# Altium schematic symbol library USB Connectors WR-COM.SchLib: 48 symbols
Pins are listed as number, name and electrical type; pins without a type are passive.

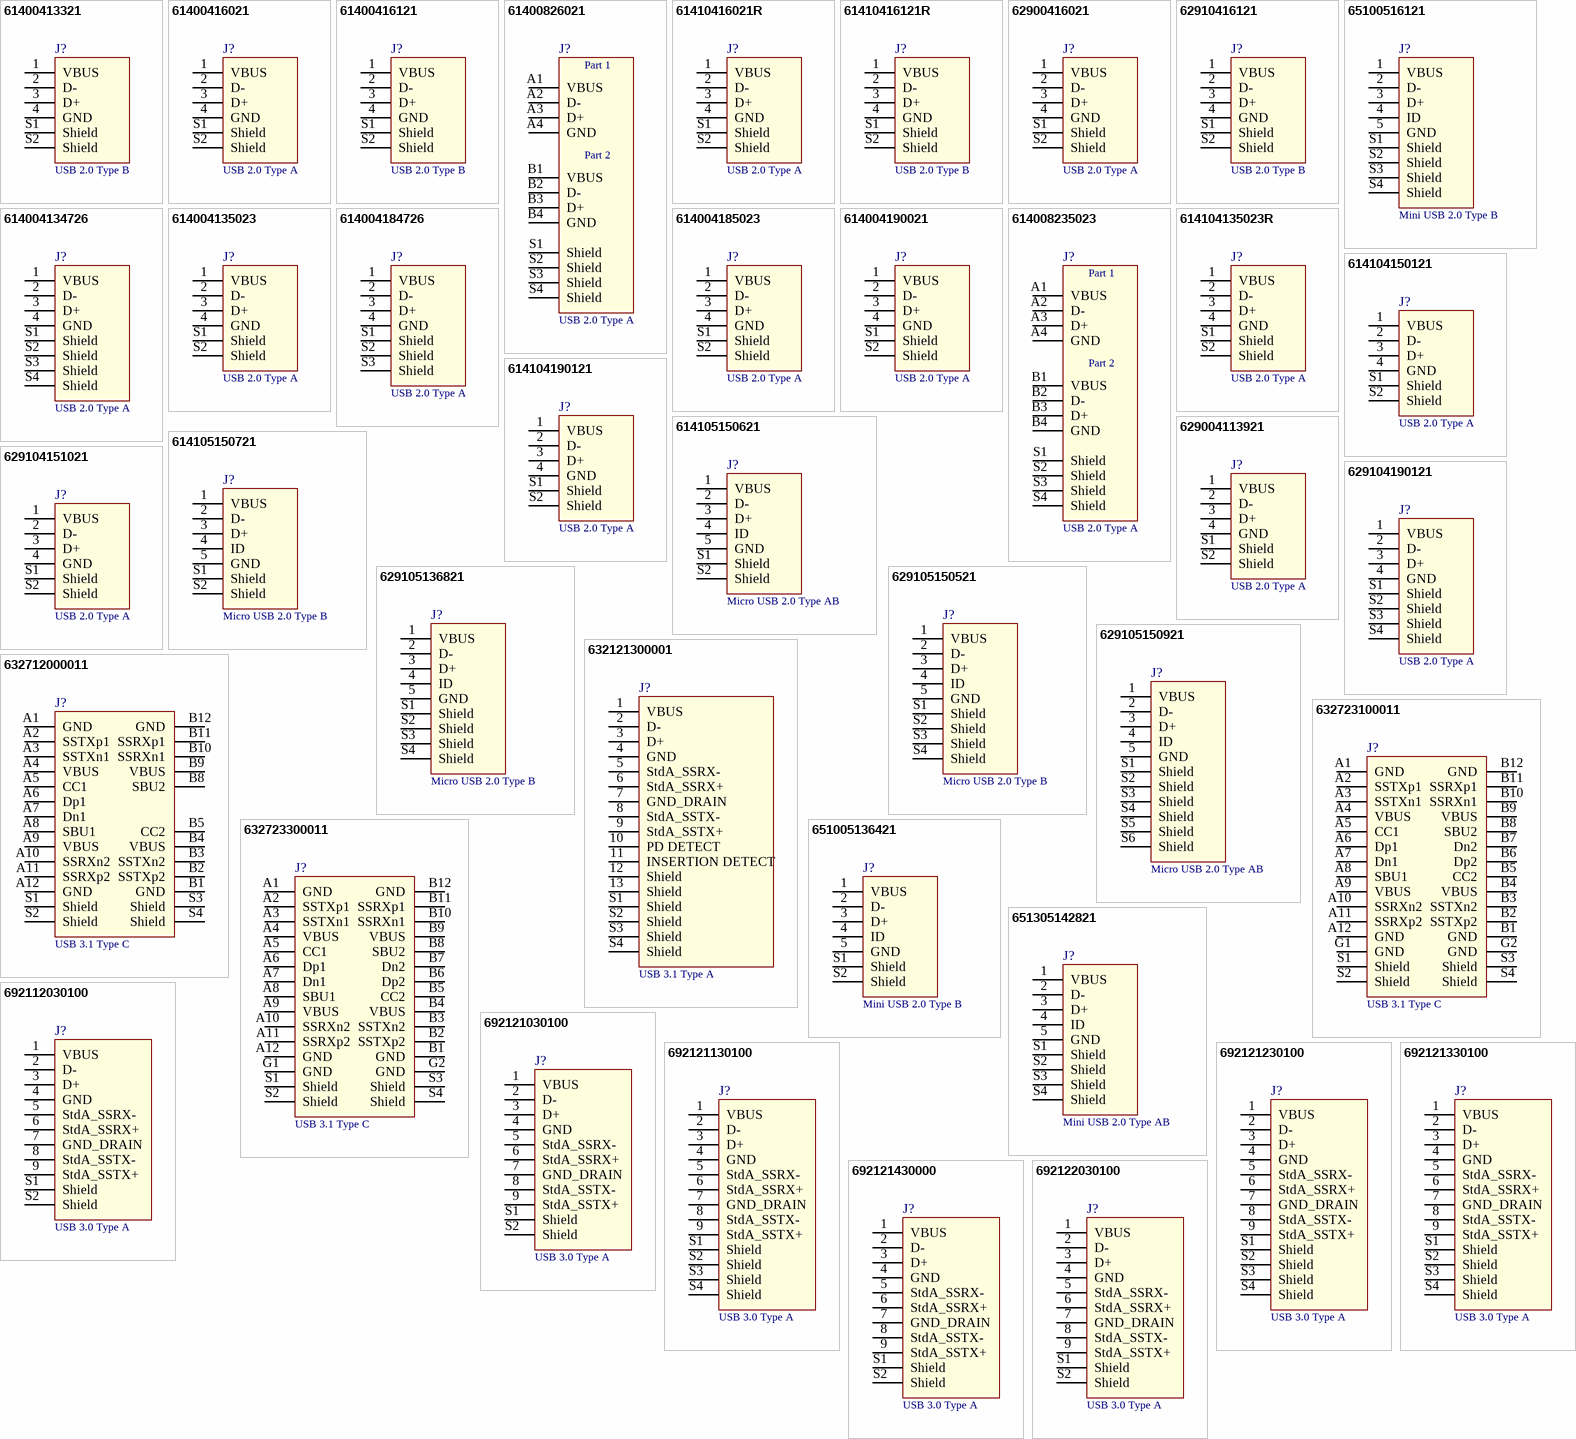
[diagram p0: symbols 61400413321 to 692122030100]

## 61400413321
designator J?, comment USB 2.0 Type B
USB 2.0 Type B Vertical THT WR-COM; Part Number: 61400413321; Rated Current: 1.5 A; Gender: Female; ComponentLink1Description: Manufacturer; ComponentLink1URL: http://www.we-online.de; ComponentLink2Description: Datasheet; ComponentLink2URL: http://katalog.we-online.de/em/datasheet/61400413321.pdf; Published Date: May 2018; Publisher: Wurth Elektronik; Orientation: Vertical; Interface Type: USB 2.0 Type B; Operating Temperature: -40 to 105 degC; Mounting Technology: THT; Packaging: Tray
footprint 61400413321
pins: 1 VBUS, 2 D-, 3 D+, 4 GND, S1 Shield, S2 Shield

## 61400416021
designator J?, comment USB 2.0 Type A
USB 2.0 Type A Horizontal THT WR-COM; Part Number: 61400416021; Rated Current: 1.5 A; Gender: Female; ComponentLink1Description: Manufacturer; ComponentLink1URL: http://www.we-online.de; ComponentLink2Description: Datasheet; ComponentLink2URL: http://katalog.we-online.de/em/datasheet/61400416021.pdf; Published Date: May 2018; Publisher: Wurth Elektronik; Orientation: Horizontal; Interface Type: USB 2.0 Type A; Operating Temperature: -40 to 105 degC; Mounting Technology: THT; Packaging: Tray
footprint 61400416021
pins: 1 VBUS, 2 D-, 3 D+, 4 GND, S1 Shield, S2 Shield

## 61400416121
designator J?, comment USB 2.0 Type B
USB 2.0 Type B Horizontal THT WR-COM; Part Number: 61400416121; Rated Current: 1.5 A; Gender: Female; ComponentLink1Description: Manufacturer; ComponentLink1URL: http://www.we-online.de; ComponentLink2Description: Datasheet; ComponentLink2URL: http://katalog.we-online.de/em/datasheet/61400416121.pdf; Published Date: May 2018; Publisher: Wurth Elektronik; Orientation: Horizontal; Interface Type: USB 2.0 Type B; Operating Temperature: -40 to 105 degC; Mounting Technology: THT; Packaging: Tray
footprint 61400416121
pins: 1 VBUS, 2 D-, 3 D+, 4 GND, S1 Shield, S2 Shield

## 61400826021
designator J?, comment USB 2.0 Type A
USB 2.0 Type A Horizontal THT Dual Stacked WR-COM; Part Number: 61400826021; Rated Current: 1.5 A; Gender: Female; ComponentLink1Description: Manufacturer; ComponentLink1URL: http://www.we-online.de; ComponentLink2Description: Datasheet; ComponentLink2URL: http://katalog.we-online.de/em/datasheet/61400826021.pdf; Published Date: May 2018; Publisher: Wurth Elektronik; Orientation: Horizontal; Interface Type: USB 2.0 Type A; Operating Temperature: -40 to 105 degC; Mounting Technology: THT; Packaging: Tray
footprint 61400826021
pins: A1 VBUS, A2 D-, A3 D+, A4 GND, B1 VBUS, B2 D-, B3 D+, B4 GND, S1 Shield, S2 Shield, S3 Shield, S4 Shield
text: Part 1; Part 2

## 61410416021R
designator J?, comment USB 2.0 Type A
USB 2.0 Type A Horizontal THR WR-COM; Part Number: 61410416021R; Rated Current: 1.5 A; Gender: Female; ComponentLink1Description: Manufacturer; ComponentLink1URL: http://www.we-online.de; ComponentLink2Description: Datasheet; ComponentLink2URL: http://katalog.we-online.de/em/datasheet/61410416021R.pdf; Published Date: May 2018; Publisher: Wurth Elektronik; Orientation: Horizontal; Interface Type: USB 2.0 Type A; Operating Temperature: -55 to 85 degC; Mounting Technology: THR; Packaging: Tape and Reel
footprint 61410416021R
pins: 1 VBUS, 2 D-, 3 D+, 4 GND, S1 Shield, S2 Shield

## 61410416121R
designator J?, comment USB 2.0 Type B
USB 2.0 Type B Horizontal THR WR-COM; Part Number: 61410416121R; Rated Current: 1.5 A; Gender: Female; ComponentLink1Description: Manufacturer; ComponentLink1URL: http://www.we-online.de; ComponentLink2Description: Datasheet; ComponentLink2URL: http://katalog.we-online.de/em/datasheet/61410416121R.pdf; Published Date: May 2018; Publisher: Wurth Elektronik; Orientation: Horizontal; Interface Type: USB 2.0 Type B; Operating Temperature: -55 to 85 degC; Mounting Technology: THR; Packaging: Tape and Reel
footprint 61410416121R
pins: 1 VBUS, 2 D-, 3 D+, 4 GND, S1 Shield, S2 Shield

## 62900416021
designator J?, comment USB 2.0 Type A
USB 2.0 Type A Horizontal SMT WR-COM; Part Number: 62900416021; Rated Current: 1.5 A; Gender: Female; ComponentLink1Description: Manufacturer; ComponentLink1URL: http://www.we-online.de; ComponentLink2Description: Datasheet; ComponentLink2URL: http://katalog.we-online.de/em/datasheet/62900416021.pdf; Published Date: May 2018; Publisher: Wurth Elektronik; Orientation: Horizontal; Interface Type: USB 2.0 Type A; Operating Temperature: -40 to 105 degC; Mounting Technology: SMT; Packaging: Tray
footprint 62900416021
pins: 1 VBUS, 2 D-, 3 D+, 4 GND, S1 Shield, S2 Shield

## 62910416121
designator J?, comment USB 2.0 Type B
USB 2.0 Type B Horizontal SMT with Pads and Pegs WR-COM; Part Number: 62910416121; Rated Current: 1.5 A; Gender: Female; ComponentLink1Description: Manufacturer; ComponentLink1URL: http://www.we-online.de; ComponentLink2Description: Datasheet; ComponentLink2URL: http://katalog.we-online.de/em/datasheet/62910416121.pdf; Published Date: May 2018; Publisher: Wurth Elektronik; Orientation: Horizontal; Interface Type: USB 2.0 Type B; Operating Temperature: -40 to 105 degC; Mounting Technology: SMT; Packaging: Tape and Reel
footprint 62910416121
pins: 1 VBUS, 2 D-, 3 D+, 4 GND, S1 Shield, S2 Shield

## 65100516121
designator J?, comment Mini USB 2.0 Type B
Mini USB 2.0 Type B Horizontal SMT 5 Contacts WR-COM; Part Number: 65100516121; Rated Current: 1 A; Gender: Female; ComponentLink1Description: Manufacturer; ComponentLink1URL: http://www.we-online.de; ComponentLink2Description: Datasheet; ComponentLink2URL: http://katalog.we-online.de/em/datasheet/65100516121.pdf; Published Date: May 2018; Publisher: Wurth Elektronik; Orientation: Horizontal; Interface Type: Mini USB 2.0 Type B; Operating Temperature: -40 to 105 degC; Mounting Technology: SMT; Packaging: Tray
footprint 65100516121
pins: 1 VBUS, 2 D-, 3 D+, 4 ID, 5 GND, S1 Shield, S2 Shield, S3 Shield, S4 Shield

## 614004134726
designator J?, comment USB 2.0 Type A
USB 2.0 Type A Up Right THT WR-COM; Part Number: 614004134726; Rated Current: 1.5 A; Gender: Female; ComponentLink1Description: Manufacturer; ComponentLink1URL: http://www.we-online.de; ComponentLink2Description: Datasheet; ComponentLink2URL: http://katalog.we-online.de/em/datasheet/614004134726.pdf; Published Date: May 2018; Publisher: Wurth Elektronik; Orientation: Up Right; Interface Type: USB 2.0 Type A; Operating Temperature: -40 to 105 degC; Mounting Technology: THT; Packaging: Tray
footprint 614004134726
pins: 1 VBUS, 2 D-, 3 D+, 4 GND, S1 Shield, S2 Shield, S3 Shield, S4 Shield

## 614004135023
designator J?, comment USB 2.0 Type A
USB 2.0 Type A Vertical THT WR-COM; Part Number: 614004135023; Rated Current: 1.5 A; Gender: Female; ComponentLink1Description: Manufacturer; ComponentLink1URL: http://www.we-online.de; ComponentLink2Description: Datasheet; ComponentLink2URL: http://katalog.we-online.de/em/datasheet/614004135023.pdf; Published Date: May 2018; Publisher: Wurth Elektronik; Orientation: Vertical; Interface Type: USB 2.0 Type A; Operating Temperature: -40 to 105 degC; Mounting Technology: THT; Packaging: Tray
footprint 614004135023
pins: 1 VBUS, 2 D-, 3 D+, 4 GND, S1 Shield, S2 Shield

## 614004184726
designator J?, comment USB 2.0 Type A
USB 2.0 Type A Up Right THT WR-COM; Part Number: 614004184726; Rated Current: 2 A; Gender: Female; ComponentLink1Description: Manufacturer; ComponentLink1URL: http://www.we-online.de; ComponentLink2Description: Datasheet; ComponentLink2URL: http://katalog.we-online.de/em/datasheet/614004184726.pdf; Published Date: May 2018; Publisher: Wurth Elektronik; Orientation: Up Right; Interface Type: USB 2.0 Type A; Operating Temperature: -40 to 85 degC; Mounting Technology: THT; Packaging: Tray
footprint 614004184726
pins: 1 VBUS, 2 D-, 3 D+, 4 GND, S1 Shield, S2 Shield, S3 Shield

## 614004185023
designator J?, comment USB 2.0 Type A
USB 2.0 Type A Vertical THT Short Type WR-COM; Part Number: 614004185023; Rated Current: 1.5 A; Gender: Female; ComponentLink1Description: Manufacturer; ComponentLink1URL: http://www.we-online.de; ComponentLink2Description: Datasheet; ComponentLink2URL: http://katalog.we-online.de/em/datasheet/614004185023.pdf; Published Date: May 2018; Publisher: Wurth Elektronik; Orientation: Vertical; Interface Type: USB 2.0 Type A; Operating Temperature: -55 to 85 degC; Mounting Technology: THT; Packaging: Tray
footprint 614004185023
pins: 1 VBUS, 2 D-, 3 D+, 4 GND, S1 Shield, S2 Shield

## 614004190021
designator J?, comment USB 2.0 Type A
USB 2.0 Type A Horizontal THT WR-COM; Part Number: 614004190021; Rated Current: 3 A; Gender: Female; ComponentLink1Description: Manufacturer; ComponentLink1URL: http://www.we-online.de; ComponentLink2Description: Datasheet; ComponentLink2URL: http://katalog.we-online.de/em/datasheet/614004190021.pdf; Published Date: May 2018; Publisher: Wurth Elektronik; Orientation: Horizontal; Interface Type: USB 2.0 Type A; Operating Temperature: -40 to 85 degC; Mounting Technology: THT; Packaging: Tray
footprint 614004190021
pins: 1 VBUS, 2 D-, 3 D+, 4 GND, S1 Shield, S2 Shield

## 614008235023
designator J?, comment USB 2.0 Type A
USB 2.0 Type A Vertical THT Dual WR-COM; Part Number: 614008235023; Rated Current: 1.5 A; Gender: Female; ComponentLink1Description: Manufacturer; ComponentLink1URL: http://www.we-online.de; ComponentLink2Description: Datasheet; ComponentLink2URL: http://katalog.we-online.de/em/datasheet/614008235023.pdf; Published Date: May 2018; Publisher: Wurth Elektronik; Orientation: Vertical; Interface Type: USB 2.0 Type A; Operating Temperature: -40 to 105 degC; Mounting Technology: THT; Packaging: Tray
footprint 614008235023
pins: A1 VBUS, A2 D-, A3 D+, A4 GND, B1 VBUS, B2 D-, B3 D+, B4 GND, S1 Shield, S2 Shield, S3 Shield, S4 Shield
text: Part 1; Part 2

## 614104135023R
designator J?, comment USB 2.0 Type A
USB 2.0 Type A Vertical THR WR-COM; Part Number: 614104135023R; Rated Current: 1.5 A; Gender: Female; ComponentLink1Description: Manufacturer; ComponentLink1URL: http://www.we-online.de; ComponentLink2Description: Datasheet; ComponentLink2URL: http://katalog.we-online.de/em/datasheet/614104135023R.pdf; Published Date: May 2018; Publisher: Wurth Elektronik; Orientation: Vertical; Interface Type: USB 2.0 Type A; Operating Temperature: -55 to 85 degC; Mounting Technology: THR; Packaging: Tape and Reel
footprint 614104135023R
pins: 1 VBUS, 2 D-, 3 D+, 4 GND, S1 Shield, S2 Shield

## 614104150121
designator J?, comment USB 2.0 Type A
USB 2.0 Type A Horizontal THT Slim Type WR-COM; Part Number: 614104150121; Rated Current: 1.5 A; Gender: Female; ComponentLink1Description: Manufacturer; ComponentLink1URL: http://www.we-online.de; ComponentLink2Description: Datasheet; ComponentLink2URL: http://katalog.we-online.de/em/datasheet/614104150121.pdf; Published Date: May 2018; Publisher: Wurth Elektronik; Orientation: Horizontal; Interface Type: USB 2.0 Type A; Operating Temperature: -40 to 85 degC; Mounting Technology: THT; Packaging: Tape and Reel with Pad
footprint 614104150121
pins: 1 VBUS, 2 D-, 3 D+, 4 GND, S1 Shield, S2 Shield

## 614104190121
designator J?, comment USB 2.0 Type A
USB 2.0 Type A Horizontal THT Short Type WR-COM; Part Number: 614104190121; Rated Current: 1.5 A; Gender: Female; ComponentLink1Description: Manufacturer; ComponentLink1URL: http://www.we-online.de; ComponentLink2Description: Datasheet; ComponentLink2URL: http://katalog.we-online.de/em/datasheet/614104190121.pdf; Published Date: May 2018; Publisher: Wurth Elektronik; Orientation: Horizontal; Interface Type: USB 2.0 Type A; Operating Temperature: -55 to 85 degC; Mounting Technology: THT; Packaging: Tape and Reel
footprint 614104190121
pins: 1 VBUS, 2 D-, 3 D+, 4 GND, S1 Shield, S2 Shield

## 614105150621
designator J?, comment Micro USB 2.0 Type AB
Micro USB 2.0 Type AB Vertical THT 5 Contacts WR-COM; Part Number: 614105150621; Rated Current: 1 A; Gender: Female; ComponentLink1Description: Manufacturer; ComponentLink1URL: http://www.we-online.de; ComponentLink2Description: Datasheet; ComponentLink2URL: http://katalog.we-online.de/em/datasheet/614105150621.pdf; Published Date: May 2018; Publisher: Wurth Elektronik; Orientation: Vertical; Interface Type: Micro USB 2.0 Type AB; Operating Temperature: -40 to 85 degC; Mounting Technology: THT; Packaging: Tape and Reel
footprint 614105150621
pins: 1 VBUS, 2 D-, 3 D+, 4 ID, 5 GND, S1 Shield, S2 Shield

## 614105150721
designator J?, comment Micro USB 2.0 Type B
Micro USB 2.0 Type B Vertical THT 5 Contacts WR-COM; Part Number: 614105150721; Rated Current: 1 A; Gender: Female; ComponentLink1Description: Manufacturer; ComponentLink1URL: http://www.we-online.de; ComponentLink2Description: Datasheet; ComponentLink2URL: http://katalog.we-online.de/em/datasheet/614105150721.pdf; Published Date: May 2018; Publisher: Wurth Elektronik; Orientation: Vertical; Interface Type: Micro USB 2.0 Type B; Operating Temperature: -40 to 85 degC; Mounting Technology: THT; Packaging: Tape and Reel
footprint 614105150721
pins: 1 VBUS, 2 D-, 3 D+, 4 ID, 5 GND, S1 Shield, S2 Shield

## 629004113921
designator J?, comment USB 2.0 Type A
USB 2.0 Plug Type A Horizontal SMT with Clip WR-COM; Part Number: 629004113921; Rated Current: 1.5 A; Gender: Male; ComponentLink1Description: Manufacturer; ComponentLink1URL: http://www.we-online.de; ComponentLink2Description: Datasheet; ComponentLink2URL: http://katalog.we-online.de/em/datasheet/629004113921.pdf; Published Date: May 2018; Publisher: Wurth Elektronik; Orientation: Horizontal; Interface Type: USB 2.0 Type A; Operating Temperature: -40 to 105 degC; Mounting Technology: SMT; Packaging: Tube
footprint 629004113921
pins: 1 VBUS, 2 D-, 3 D+, 4 GND, S1 Shield, S2 Shield

## 629104151021
designator J?, comment USB 2.0 Type A
USB 2.0 Type A Horizontal SMT with pegs WR-COM; Part Number: 629104151021; Rated Current: 1.5 A; Gender: Female; ComponentLink1Description: Manufacturer; ComponentLink1URL: http://www.we-online.de; ComponentLink2Description: Datasheet; ComponentLink2URL: http://katalog.we-online.de/em/datasheet/629104151021.pdf; Published Date: May 2018; Publisher: Wurth Elektronik; Orientation: Horizontal; Interface Type: USB 2.0 Type A; Operating Temperature: -40 to 85 degC; Mounting Technology: SMT; Packaging: Tape and Reel
footprint 629104151021
pins: 1 VBUS, 2 D-, 3 D+, 4 GND, S1 Shield, S2 Shield

## 629104190121
designator J?, comment USB 2.0 Type A
USB 2.0 Type A Horizontal SMT Short Type WR-COM; Part Number: 629104190121; Rated Current: 1.5 A; Gender: Female; ComponentLink1Description: Manufacturer; ComponentLink1URL: http://www.we-online.de; ComponentLink2Description: Datasheet; ComponentLink2URL: http://katalog.we-online.de/em/datasheet/629104190121.pdf; Published Date: May 2018; Publisher: Wurth Elektronik; Orientation: Horizontal; Interface Type: USB 2.0 Type A; Operating Temperature: -40 to 85 degC; Mounting Technology: SMT; Packaging: Tape and Reel & Mylar
footprint 629104190121
pins: 1 VBUS, 2 D-, 3 D+, 4 GND, S1 Shield, S2 Shield, S3 Shield, S4 Shield

## 629105136821
designator J?, comment Micro USB 2.0 Type B
Micro USB 2.0 Type B Horizontal SMT 5 Contacts WR-COM; Part Number: 629105136821; Rated Current: 1 A; Gender: Female; ComponentLink1Description: Manufacturer; ComponentLink1URL: http://www.we-online.de; ComponentLink2Description: Datasheet; ComponentLink2URL: http://katalog.we-online.de/em/datasheet/629105136821.pdf; Published Date: May 2018; Publisher: Wurth Elektronik; Orientation: Horizontal; Interface Type: Micro USB 2.0 Type B; Operating Temperature: -40 to 85 degC; Mounting Technology: SMT; Packaging: Tape and Reel
footprint 629105136821
pins: 1 VBUS, 2 D-, 3 D+, 4 ID, 5 GND, S1 Shield, S2 Shield, S3 Shield, S4 Shield

## 629105150521
designator J?, comment Micro USB 2.0 Type B
Micro USB 2.0 Type B Horizontal SMT 5 Contacts High Current WR-COM; Part Number: 629105150521; Rated Current: 3 A; Gender: Female; ComponentLink1Description: Manufacturer; ComponentLink1URL: http://www.we-online.de; ComponentLink2Description: Datasheet; ComponentLink2URL: http://katalog.we-online.de/em/datasheet/629105150521.pdf; Published Date: May 2018; Publisher: Wurth Elektronik; Orientation: Horizontal; Interface Type: Micro USB 2.0 Type B; Operating Temperature: -40 to 85 degC; Mounting Technology: SMT; Packaging: Tape and Reel
footprint 629105150521
pins: 1 VBUS, 2 D-, 3 D+, 4 ID, 5 GND, S1 Shield, S2 Shield, S3 Shield, S4 Shield

## 629105150921
designator J?, comment Micro USB 2.0 Type AB
Micro USB 2.0 Type AB Horizontal SMT WR-COM; Part Number: 629105150921; Rated Current: 1 A; Gender: Female; ComponentLink1Description: Manufacturer; ComponentLink1URL: http://www.we-online.de; ComponentLink2Description: Datasheet; ComponentLink2URL: http://katalog.we-online.de/em/datasheet/629105150921.pdf; Published Date: May 2018; Publisher: Wurth Elektronik; Orientation: Horizontal; Interface Type: Micro USB 2.0 Type AB; Operating Temperature: -40 to 85 degC; Mounting Technology: SMT; Packaging: Tape and Reel
footprint 629105150921
pins: 1 VBUS, 2 D-, 3 D+, 4 ID, 5 GND, S1 Shield, S2 Shield, S3 Shield, S4 Shield, S5 Shield, S6 Shield

## 632121300001
designator J?, comment USB 3.1 Type A
USB 3.1 Type A Receptacle Horizontal THT Power Delivery WR-COM; Part Number: 632121300001; Rated Current: 5 A; Gender: Female; ComponentLink1Description: Manufacturer; ComponentLink1URL: http://www.we-online.de; ComponentLink2Description: Datasheet; ComponentLink2URL: http://katalog.we-online.de/em/datasheet/632121300001.pdf; Published Date: May 2018; Publisher: Wurth Elektronik; Orientation: Horizontal; Interface Type: USB 3.1 Type A; Operating Temperature: -20 to 85 degC; Mounting Technology: THT; Packaging: Tray
footprint 632121300001
pins: 1 VBUS, 2 D-, 3 D+, 4 GND, 5 StdA_SSRX-, 6 StdA_SSRX+, 7 GND_DRAIN, 8 StdA_SSTX-, 9 StdA_SSTX+, 10 PD DETECT, 11 INSERTION DETECT, 12 Shield, 13 Shield, S1 Shield, S2 Shield, S3 Shield, S4 Shield

## 632712000011
designator J?, comment USB 3.1 Type C
USB 3.1 Type C Plug Horizontal SMT WR-COM; Part Number: 632712000011; Rated Current: 5 A; Gender: Male Plug; ComponentLink1Description: Manufacturer; ComponentLink1URL: http://www.we-online.de; ComponentLink2Description: Datasheet; ComponentLink2URL: http://katalog.we-online.de/em/datasheet/632712000011.pdf; Published Date: May 2018; Publisher: Wurth Elektronik; Orientation: Horizontal; Interface Type: USB 3.1 Type C; Operating Temperature: -25 to 105 degC; Mounting Technology: SMT; Packaging: Tape and Reel with Cap
footprint 632712000011
pins: A1 GND, A2 SSTXp1, A3 SSTXn1, A4 VBUS, A5 CC1, A6 Dp1, A7 Dn1, A8 SBU1, A9 VBUS, A10 SSRXn2, A11 SSRXp2, A12 GND, B1 GND, B2 SSTXp2, B3 SSTXn2, B4 VBUS, B5 CC2, B8 SBU2, B9 VBUS, B10 SSRXn1, B11 SSRXp1, B12 GND, S1 Shield, S2 Shield, S3 Shield, S4 Shield

## 632723100011
designator J?, comment USB 3.1 Type C
USB 3.1 Type C Receptacle Horizontal THR WR-COM; Part Number: 632723100011; Rated Current: 5 A; Gender: Female Plug; ComponentLink1Description: Manufacturer; ComponentLink1URL: http://www.we-online.de; ComponentLink2Description: Datasheet; ComponentLink2URL: http://katalog.we-online.de/em/datasheet/632723x00011.pdf; Published Date: May 2018; Publisher: Wurth Elektronik; Orientation: Horizontal; Interface Type: USB 3.1 Type C; Operating Temperature: -25 to 105 degC; Mounting Technology: THR; Packaging: Tape and Reel with Cap
footprint 632723100011 (USB 3.1 Type C Receptacle Horizontal THR)
pins: A1 GND, A2 SSTXp1, A3 SSTXn1, A4 VBUS, A5 CC1, A6 Dp1, A7 Dn1, A8 SBU1, A9 VBUS, A10 SSRXn2, A11 SSRXp2, A12 GND, B1 GND, B2 SSTXp2, B3 SSTXn2, B4 VBUS, B5 CC2, B6 Dp2, B7 Dn2, B8 SBU2, B9 VBUS, B10 SSRXn1, B11 SSRXp1, B12 GND, G1 GND, G2 GND, S1 Shield, S2 Shield, S3 Shield, S4 Shield

## 632723300011
designator J?, comment USB 3.1 Type C
USB 3.1 Type C Receptacle Horizontal THR WR-COM; Part Number: 632723300011; Rated Current: 5 A; Gender: Female Plug; ComponentLink1Description: Manufacturer; ComponentLink1URL: http://www.we-online.de; ComponentLink2Description: Datasheet; ComponentLink2URL: http://katalog.we-online.de/em/datasheet/632723x00011.pdf; Published Date: May 2018; Publisher: Wurth Elektronik; Orientation: Horizontal; Interface Type: USB 3.1 Type C; Operating Temperature: -25 to 105 degC; Mounting Technology: THR; Packaging: Tape and Reel with Cap
footprint 632723300011
pins: A1 GND, A2 SSTXp1, A3 SSTXn1, A4 VBUS, A5 CC1, A6 Dp1, A7 Dn1, A8 SBU1, A9 VBUS, A10 SSRXn2, A11 SSRXp2, A12 GND, B1 GND, B2 SSTXp2, B3 SSTXn2, B4 VBUS, B5 CC2, B6 Dp2, B7 Dn2, B8 SBU2, B9 VBUS, B10 SSRXn1, B11 SSRXp1, B12 GND, G1 GND, G2 GND, S1 Shield, S2 Shield, S3 Shield, S4 Shield

## 651005136421
designator J?, comment Mini USB 2.0 Type B
Mini USB 2.0 Type B Vertical THT 5 Contacts WR-COM; Part Number: 651005136421; Rated Current: 1 A; Gender: Female; ComponentLink1Description: Manufacturer; ComponentLink1URL: http://www.we-online.de; ComponentLink2Description: Datasheet; ComponentLink2URL: http://katalog.we-online.de/em/datasheet/651005136421%282%29.pdf; Published Date: May 2018; Publisher: Wurth Elektronik; Orientation: Vertical; Interface Type: Mini USB 2.0 Type B; Operating Temperature: -40 to 105 degC; Mounting Technology: THT; Packaging: Tray
footprint 651005136421
pins: 1 VBUS, 2 D-, 3 D+, 4 ID, 5 GND, S1 Shield, S2 Shield

## 651305142821
designator J?, comment Mini USB 2.0 Type AB
Mini USB 2.0 Type AB Horizontal SMT 5 Contacts WR-COM; Part Number: 651305142821; Rated Current: 1 A; Gender: Female; ComponentLink1Description: Manufacturer; ComponentLink1URL: http://www.we-online.de; ComponentLink2Description: Datasheet; ComponentLink2URL: http://katalog.we-online.de/em/datasheet/651305142821.pdf; Published Date: May 2018; Publisher: Wurth Elektronik; Orientation: Horizontal; Interface Type: Mini USB 2.0 Type AB; Operating Temperature: -40 to 105 degC; Mounting Technology: SMT; Packaging: Tape and Reel
footprint 651305142821
pins: 1 VBUS, 2 D-, 3 D+, 4 ID, 5 GND, S1 Shield, S2 Shield, S3 Shield, S4 Shield

## 692112030100
designator J?, comment USB 3.0 Type A
USB 3.0 Type A Horizontal SMT Plug with Clip WR-COM; Part Number: 692112030100; Rated Current: 0.25 A; Gender: Male; ComponentLink1Description: Manufacturer; ComponentLink1URL: http://www.we-online.de; ComponentLink2Description: Datasheet; ComponentLink2URL: http://katalog.we-online.de/em/datasheet/692112030100.pdf; Published Date: May 2018; Publisher: Wurth Elektronik; Orientation: Horizontal; Interface Type: USB 3.0 Type A; Operating Temperature: -20 to 85 degC; Mounting Technology: SMT; Packaging: Tray
footprint 692112030100
pins: 1 VBUS, 2 D-, 3 D+, 4 GND, 5 StdA_SSRX-, 6 StdA_SSRX+, 7 GND_DRAIN, 8 StdA_SSTX-, 9 StdA_SSTX+, S1 Shield, S2 Shield

## 692121030100
designator J?, comment USB 3.0 Type A
USB 3.0 Type A Horizontal THT WR-COM; Part Number: 692121030100; Rated Current: 0.25 A; Gender: Female; ComponentLink1Description: Manufacturer; ComponentLink1URL: http://www.we-online.de; ComponentLink2Description: Datasheet; ComponentLink2URL: http://katalog.we-online.de/em/datasheet/692121030100.pdf; Published Date: May 2018; Publisher: Wurth Elektronik; Orientation: Horizontal; Interface Type: USB 3.0 Type A; Operating Temperature: -20 to 85 degC; Mounting Technology: THT; Packaging: Tape and Reel
footprint 692121030100
pins: 1 VBUS, 2 D-, 3 D+, 4 GND, 5 StdA_SSRX-, 6 StdA_SSRX+, 7 GND_DRAIN, 8 StdA_SSTX-, 9 StdA_SSTX+, S1 Shield, S2 Shield

## 692121130100
designator J?, comment USB 3.0 Type A
USB 3.0 Type A Reverse Horizontal THT with Offset 0.14mm WR-COM; Part Number: 692121130100; Rated Current: 0.25 A; Gender: Female; ComponentLink1Description: Manufacturer; ComponentLink1URL: http://www.we-online.de; ComponentLink2Description: Datasheet; ComponentLink2URL: http://katalog.we-online.de/em/datasheet/692121130100.pdf; Published Date: May 2018; Publisher: Wurth Elektronik; Orientation: Horizontal; Interface Type: USB 3.0 Type A; Operating Temperature: -20 to 85 degC; Mounting Technology: THT; Packaging: Tape and Reel
footprint 692121130100
pins: 1 VBUS, 2 D-, 3 D+, 4 GND, 5 StdA_SSRX-, 6 StdA_SSRX+, 7 GND_DRAIN, 8 StdA_SSTX-, 9 StdA_SSTX+, S1 Shield, S2 Shield, S3 Shield, S4 Shield

## 692121230100
designator J?, comment USB 3.0 Type A
USB 3.0 Type A Horizontal THT with Offset 1.04mm WR-COM; Part Number: 692121230100; Rated Current: 0.25 A; Gender: Female; ComponentLink1Description: Manufacturer; ComponentLink1URL: http://www.we-online.de; ComponentLink2Description: Datasheet; ComponentLink2URL: http://katalog.we-online.de/em/datasheet/692121230100.pdf; Published Date: May 2018; Publisher: Wurth Elektronik; Orientation: Horizontal; Interface Type: USB 3.0 Type A; Operating Temperature: -20 to 85 degC; Mounting Technology: THT; Packaging: Tape and Reel
footprint 692121230100
pins: 1 VBUS, 2 D-, 3 D+, 4 GND, 5 StdA_SSRX-, 6 StdA_SSRX+, 7 GND_DRAIN, 8 StdA_SSTX-, 9 StdA_SSTX+, S1 Shield, S2 Shield, S3 Shield, S4 Shield

## 692121330100
designator J?, comment USB 3.0 Type A
USB 3.0 Type A Reverse Horizontal THT with Offset 1.75mm WR-COM; Part Number: 692121330100; Rated Current: 0.25 A; Gender: Female; ComponentLink1Description: Manufacturer; ComponentLink1URL: http://www.we-online.de; ComponentLink2Description: Datasheet; ComponentLink2URL: http://katalog.we-online.de/em/datasheet/692121330100.pdf; Published Date: May 2018; Publisher: Wurth Elektronik; Orientation: Horizontal; Interface Type: USB 3.0 Type A; Operating Temperature: -20 to 85 degC; Mounting Technology: THT; Packaging: Tape and Reel
footprint 692121330100
pins: 1 VBUS, 2 D-, 3 D+, 4 GND, 5 StdA_SSRX-, 6 StdA_SSRX+, 7 GND_DRAIN, 8 StdA_SSTX-, 9 StdA_SSTX+, S1 Shield, S2 Shield, S3 Shield, S4 Shield

## 692121430000
designator J?, comment USB 3.0 Type A
USB 3.0 Type A Vertical THT WR-COM; Part Number: 692121430000; Rated Current: 0.25 A; Gender: Female; ComponentLink1Description: Manufacturer; ComponentLink1URL: http://www.we-online.de; ComponentLink2Description: Datasheet; ComponentLink2URL: http://katalog.we-online.de/em/datasheet/692121430000.pdf; Published Date: May 2018; Publisher: Wurth Elektronik; Orientation: Vertical; Interface Type: USB 3.0 Type A; Operating Temperature: -20 to 85 degC; Mounting Technology: THT; Packaging: Tray
footprint 692121430000
pins: 1 VBUS, 2 D-, 3 D+, 4 GND, 5 StdA_SSRX-, 6 StdA_SSRX+, 7 GND_DRAIN, 8 StdA_SSTX-, 9 StdA_SSTX+, S1 Shield, S2 Shield

## 692122030100
designator J?, comment USB 3.0 Type A
USB 3.0 Type A Horizontal SMT WR-COM; Part Number: 692122030100; Rated Current: 0.25 A; Gender: Female; ComponentLink1Description: Manufacturer; ComponentLink1URL: http://www.we-online.de; ComponentLink2Description: Datasheet; ComponentLink2URL: http://katalog.we-online.de/em/datasheet/692122030100.pdf; Published Date: May 2018; Publisher: Wurth Elektronik; Orientation: Horizontal; Interface Type: USB 3.0 Type A; Operating Temperature: -20 to 85 degC; Mounting Technology: SMT; Packaging: Tape and Reel
footprint 692122030100
pins: 1 VBUS, 2 D-, 3 D+, 4 GND, 5 StdA_SSRX-, 6 StdA_SSRX+, 7 GND_DRAIN, 8 StdA_SSTX-, 9 StdA_SSTX+, S1 Shield, S2 Shield

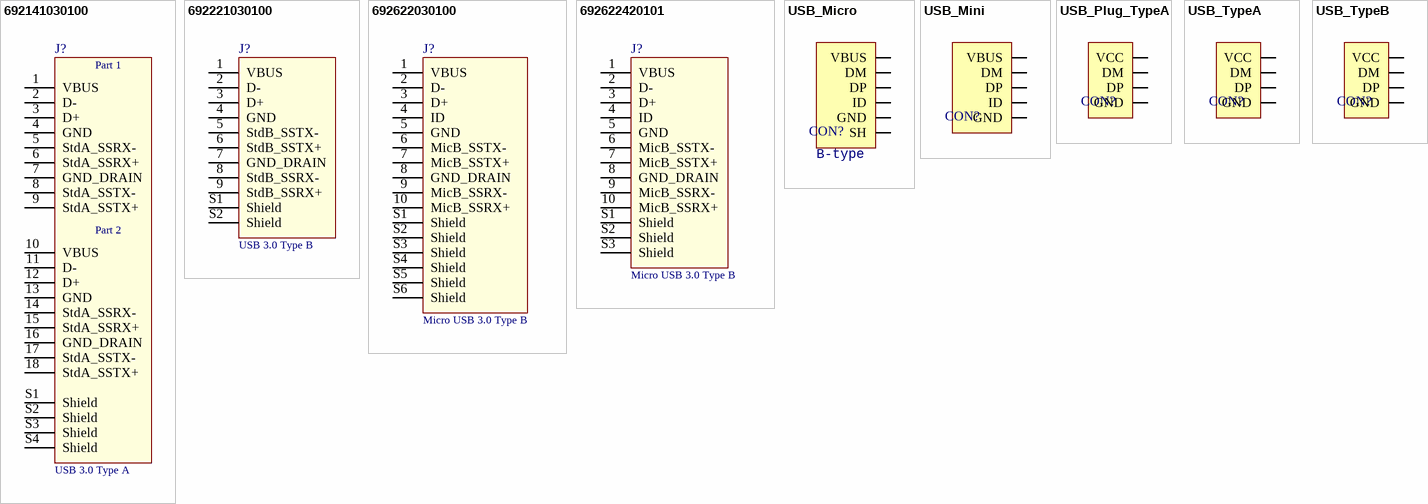
[diagram p1: symbols 692141030100 to USB_TypeB]

## 692141030100
designator J?, comment USB 3.0 Type A
USB 3.0 Type A Stacked Horizontal THT WR-COM; Part Number: 692141030100; Rated Current: 0.25 A; Gender: Female; ComponentLink1Description: Manufacturer; ComponentLink1URL: http://www.we-online.de; ComponentLink2Description: Datasheet; ComponentLink2URL: http://katalog.we-online.de/em/datasheet/692141030100.pdf; Published Date: May 2018; Publisher: Wurth Elektronik; Orientation: Horizontal; Interface Type: USB 3.0 Type A; Operating Temperature: -40 to 85 degC; Mounting Technology: THT; Packaging: Tray
footprint 692141030100
pins: 1 VBUS, 2 D-, 3 D+, 4 GND, 5 StdA_SSRX-, 6 StdA_SSRX+, 7 GND_DRAIN, 8 StdA_SSTX-, 9 StdA_SSTX+, 10 VBUS, 11 D-, 12 D+, 13 GND, 14 StdA_SSRX-, 15 StdA_SSRX+, 16 GND_DRAIN, 17 StdA_SSTX-, 18 StdA_SSTX+, S1 Shield, S2 Shield, S3 Shield, S4 Shield
text: Part 1; Part 2

## 692221030100
designator J?, comment USB 3.0 Type B
USB 3.0 Type B Horizontal THT WR-COM; Part Number: 692221030100; Rated Current: 0.25 A; Gender: Female; ComponentLink1Description: Manufacturer; ComponentLink1URL: http://www.we-online.de; ComponentLink2Description: Datasheet; ComponentLink2URL: http://katalog.we-online.de/em/datasheet/692221030100.pdf; Published Date: May 2018; Publisher: Wurth Elektronik; Orientation: Horizontal; Interface Type: USB 3.0 Type B; Operating Temperature: -20 to 85 degC; Mounting Technology: THT; Packaging: Tray
footprint 692221030100
pins: 1 VBUS, 2 D-, 3 D+, 4 GND, 5 StdB_SSTX-, 6 StdB_SSTX+, 7 GND_DRAIN, 8 StdB_SSRX-, 9 StdB_SSRX+, S1 Shield, S2 Shield

## 692622030100
designator J?, comment Micro USB 3.0 Type B
Micro USB 3.0 Type B Horizontal SMT WR-COM; Part Number: 692622030100; Rated Current: 0.25 A; Gender: Female; ComponentLink1Description: Manufacturer; ComponentLink1URL: http://www.we-online.de; ComponentLink2Description: Datasheet; ComponentLink2URL: http://katalog.we-online.de/em/datasheet/692622030100.pdf; Published Date: May 2018; Publisher: Wurth Elektronik; Orientation: Horizontal; Interface Type: Micro USB 3.0 Type B; Operating Temperature: -20 to 85 degC; Mounting Technology: SMT; Packaging: Tape and Reel
footprint 692622030100
pins: 1 VBUS, 2 D-, 3 D+, 4 ID, 5 GND, 6 MicB_SSTX-, 7 MicB_SSTX+, 8 GND_DRAIN, 9 MicB_SSRX-, 10 MicB_SSRX+, S1 Shield, S2 Shield, S3 Shield, S4 Shield, S5 Shield, S6 Shield

## 692622420101
designator J?, comment Micro USB 3.0 Type B
Micro USB 3.0 Type B Vertical SMT WR-COM; Part Number: 692622420101; Rated Current: 1.8 A; Gender: Female; ComponentLink1Description: Manufacturer; ComponentLink1URL: http://www.we-online.de; ComponentLink2Description: Datasheet; ComponentLink2URL: http://katalog.we-online.de/em/datasheet/692622420101.pdf; Published Date: May 2018; Publisher: Wurth Elektronik; Orientation: Vertical; Interface Type: Micro USB 3.0 Type B; Operating Temperature: -30 to 85 degC; Mounting Technology: SMT; Packaging: Tape and Reel
footprint 692622420101
pins: 1 VBUS, 2 D-, 3 D+, 4 ID, 5 GND, 6 MicB_SSTX-, 7 MicB_SSTX+, 8 GND_DRAIN, 9 MicB_SSRX-, 10 MicB_SSRX+, S1 Shield, S2 Shield, S3 Shield

## USB_Micro
designator CON?, comment Type: B-type  (hidden comment: MicroUSB)
USB
footprint USB_Micro-AB
footprint USB_Micro-B
footprint USB_Micro-A
pins: 0 SH, 1 VBUS, 2 DM, 3 DP, 4 ID, 5 GND

## USB_Mini
designator CON?, comment MiniUSB  (value not drawn)
USB
footprint USB_Mini-B
pins: 1 VBUS, 2 DM, 3 DP, 4 ID, 5 GND

## USB_Plug_TypeA
designator CON?  (value not drawn)
USB
footprint USB_Plug_TypeA_PCB
footprint USB_Plug_TypeA
pins: 1 VCC, 2 DM, 3 DP, 4 GND

## USB_TypeA
designator CON?  (value not drawn)
USB
footprint USB_TypeA
pins: 1 VCC, 2 DM, 3 DP, 4 GND

## USB_TypeB
designator CON?  (value not drawn)
USB
footprint USB_TypeB
pins: 1 VCC, 2 DM, 3 DP, 4 GND